# Altium footprint library EIGHT_29.PcbLib: 57 footprints (part 1 of 4)
Each footprint in its own frame and in the unit in brackets; x right, y up, seen from the top. Pads: shape width x height; smd on the part's side, far side on the other; paste and mask are expansions set on the pad; w line width, h text height; cw(c..) or ccw(c..) is an arc to the next point about the centre after c.
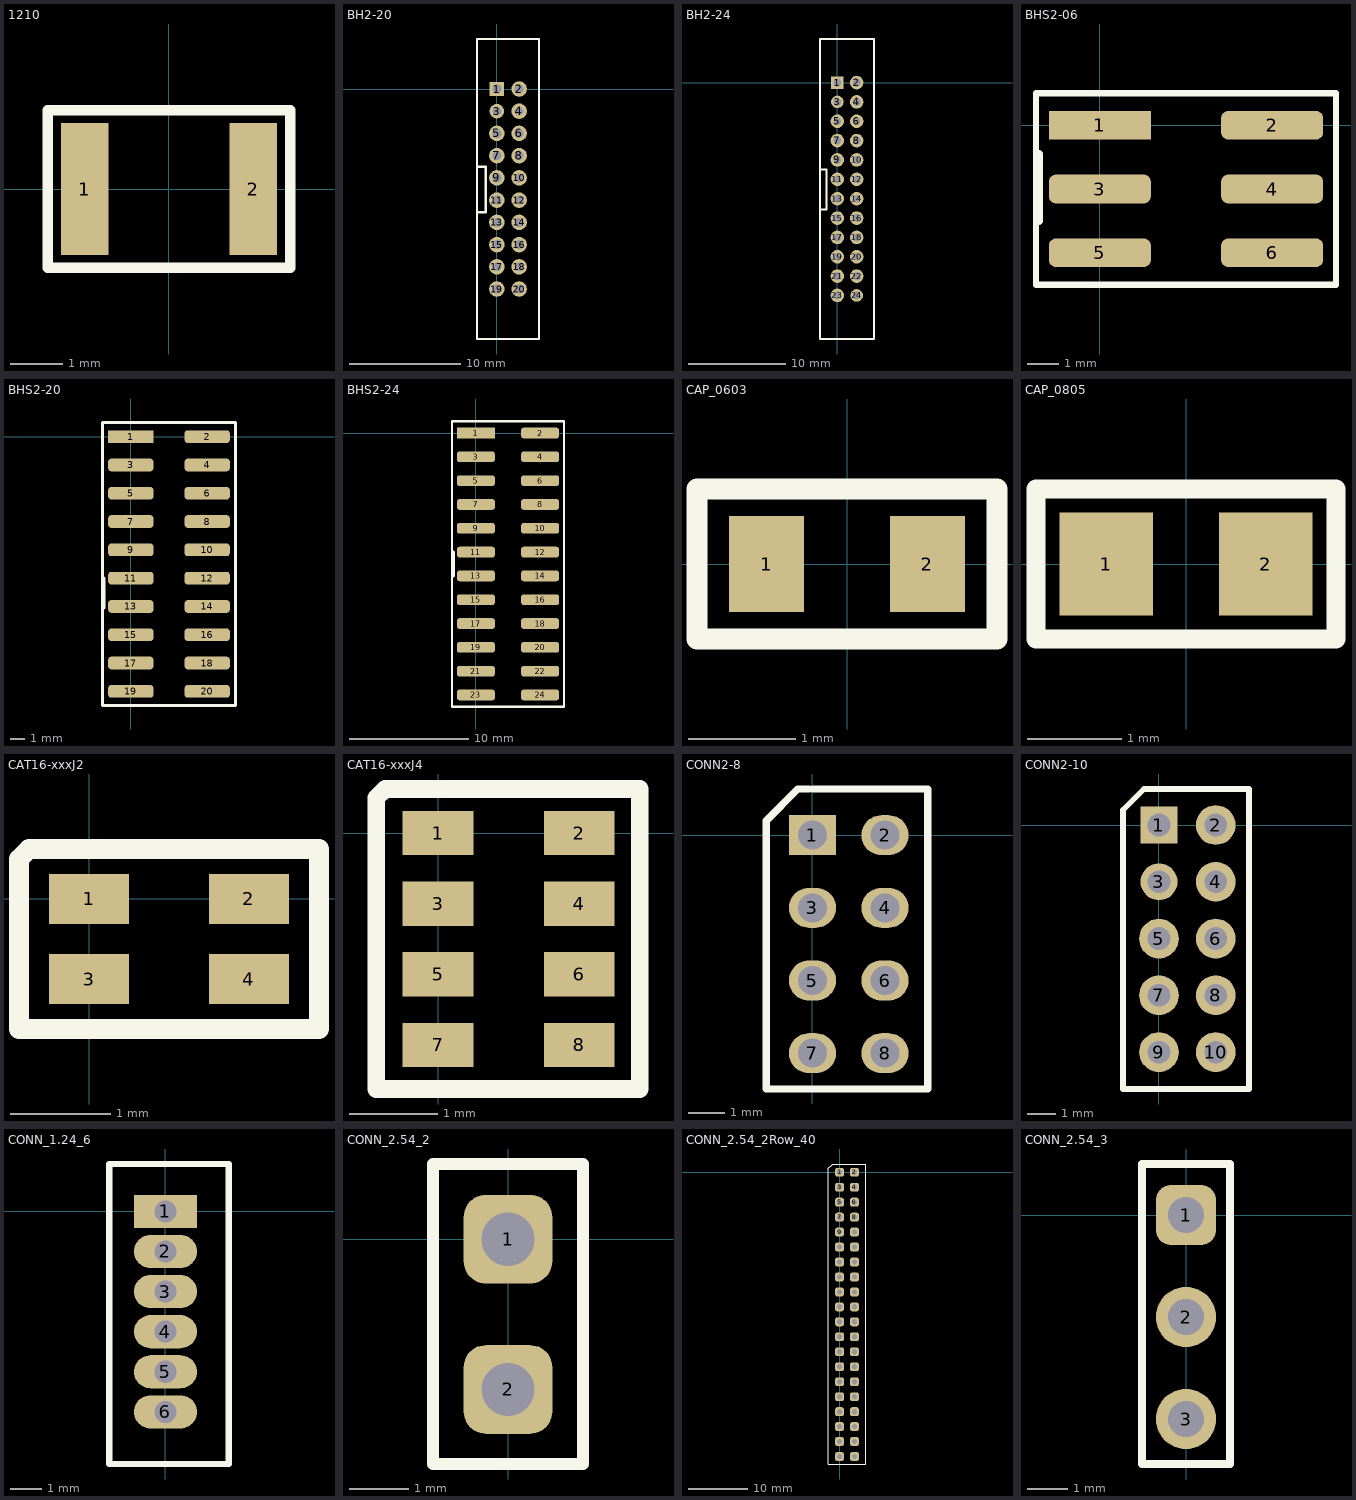
[diagram p0: the footprints below, top view; thin cyan lines are the x and y axes]

## 1210 [mm]
pads (2):
  rect 0.9x2.5 smd: 1(-1.6,0) 2(1.6,0)
Top Overlay:
  lines w0.2: -2.3,-1.5 -2.3,1.5 0.2,1.5 2.3,1.5 2.3,-1.5 -2.3,-1.5

## BH2-20 [mm] "BH2-20"
height 10
pads (20):
  rect 1.3x1.3 hole 0.8: 1(0,0)
  round 1.4 hole 0.8: 2(2,0) 4(2,-2) 5(0,-4) 6(2,-4) 7(0,-6) 8(2,-6) 9(0,-8) 10(2,-8) 11(0,-10) 12(2,-10) 13(0,-12) 14(2,-12) 15(0,-14) 16(2,-14) 17(0,-16) 18(2,-16) 19(0,-18) 20(2,-18)
  round 1.3 hole 0.8: 3(0,-2)
Top Overlay:
  lines w0.2: -1.75,-11.1 -1,-11.1 -1,-7 -1.75,-7 ; 0.5,4.5 3.8,4.5 3.8,-22.5 2.205,-22.5 -1.8,-22.5 -1.8,4.5 -0.077,4.5 0.307,4.5 1.5,4.5

## BH2-24 [mm]
pads (24):
  rect 1.3x1.3 hole 0.8: 1(0,0)
  round 1.4 hole 0.8: 2(2,0) 4(2,-2) 5(0,-4) 6(2,-4) 7(0,-6) 8(2,-6) 9(0,-8) 10(2,-8) 11(0,-10) 12(2,-10) 13(0,-12) 14(2,-12) 15(0,-14) 16(2,-14) 17(0,-16) 18(2,-16) 19(0,-18) 20(2,-18) 21(0,-20) 22(2,-20) 23(0,-22)
  round 1.3 hole 0.8: 3(0,-2) 24(2,-22)
Top Overlay:
  lines w0.2: -1.8,-13.1 -1.1,-13.1 -1.1,-9 -1.8,-9 ; 0.5,4.5 3.8,4.5 3.8,-26.5 0.205,-26.5 -1.8,-26.5 -1.8,4.5 -0.077,4.5 0.307,4.5 1.5,4.5

## BHS2-06 [mm]
pads (6):
  rect 3.2x0.9 smd: 1(0,0)
  rrect50% 3.2x0.9 smd: 2(5.4,0) 3(0,-2) 4(5.4,-2) 5(0,-4) 6(5.4,-4)
Top Overlay:
  lines w0.2: 3.2,1 7.4,1 7.4,-5 -2,-5 -2,1 3.3,1
  lines w0.254: -1.9,-3 -1.9,-0.9 -1.9,-2.6

## BHS2-20 [mm]
pads (20):
  rect 3.2x0.9 smd: 1(0,0)
  rrect50% 3.2x0.9 smd: 2(5.4,0) 3(0,-2) 4(5.4,-2) 5(0,-4) 6(5.4,-4) 7(0,-6) 8(5.4,-6) 9(0,-8) 10(5.4,-8) 11(0,-10) 12(5.4,-10) 13(0,-12) 14(5.4,-12) 15(0,-14) 16(5.4,-14) 17(0,-16) 18(5.4,-16) 19(0,-18) 20(5.4,-18)
Top Overlay:
  lines w0.2: 3.2,1 7.4,1 7.4,-19 1.225,-19 -1.125,-19 -2,-19 -2,1 3.3,1
  lines w0.254: -1.9,-12.1 -1.9,-10 -1.9,-10.4

## BHS2-24 [mm]
pads (24):
  rect 3.2x0.9 smd: 1(0,0)
  rrect50% 3.2x0.9 smd: 2(5.4,0) 3(0,-2) 4(5.4,-2) 5(0,-4) 6(5.4,-4) 7(0,-6) 8(5.4,-6) 9(0,-8) 10(5.4,-8) 11(0,-10) 12(5.4,-10) 13(0,-12) 14(5.4,-12) 15(0,-14) 16(5.4,-14) 17(0,-16) 18(5.4,-16) 19(0,-18) 20(5.4,-18) 21(0,-20) 22(5.4,-20) 23(0,-22) 24(5.4,-22)
Top Overlay:
  lines w0.2: 3.2,1 7.4,1 7.4,-23 -2,-23 -2,1 3.3,1
  lines w0.254: -1.9,-12 -1.9,-10.5 ; -1.9,-10.4 -1.9,-10

## CAP_0603 [mm]
pads (2):
  rect 0.7x0.9 smd: 1(-0.75,0) 2(0.75,0)
Top Overlay:
  lines w0.2: -1.4,-0.7 -1.4,-0.15 -1.4,0.7 1.4,0.7 1.4,-0.7 0.65,-0.7 -0.65,-0.7 -1.4,-0.7

## CAP_0805 [mm]
pads (2):
  rect 1x1.1 smd: 1(-0.85,0) 2(0.85,0)
Top Overlay:
  lines w0.2: -1.6,-0.8 1.6,-0.8 1.6,0.8 -1.6,0.8 -1.6,-0.117 -1.6,-0.8

## CAT16-xxxJ2 [mm]
pads (4):
  rect 0.8x0.5 smd: 1(0,0) 2(1.6,0) 3(0,-0.8) 4(1.6,-0.8)
Top Overlay:
  lines w0.2: 0.6,0.5 2.3,0.5 2.3,-1.3 -0.7,-1.3 -0.7,0.4 -0.6,0.5 1,0.5

## CAT16-xxxJ4 [mm]
pads (8):
  rect 0.8x0.5 smd: 1(0,0) 2(1.6,0) 3(0,-0.8) 4(1.6,-0.8) 5(0,-1.6) 6(1.6,-1.6) 7(0,-2.4) 8(1.6,-2.4)
Top Overlay:
  lines w0.2: 0.6,0.5 2.286,0.5 2.286,-2.9 -0.7,-2.9 -0.7,0.4 -0.6,0.5 1,0.5

## CONN2-8 [mm] "BH2-8"
height 10
pads (8):
  rect 1.3x1.1 hole 0.8: 1(0,0)
  oval 1.3x1.1 hole 0.8: 2(2,0) 3(0,-2) 4(2,-2) 5(0,-4) 6(2,-4) 7(0,-6) 8(2,-6)
Top Overlay:
  lines w0.2: -0.077,1.27 -0.4,1.27 -1.27,0.4 -1.27,-6.985 3.175,-6.985 3.175,1.27 0,1.27

## CONN2-10 [mm]
height 8
pads (10):
  rect 1.3x1.3 hole 0.8: 1(0,0)
  round 1.4 hole 0.8: 2(2,0) 4(2,-2) 5(0,-4) 6(2,-4) 7(0,-6) 8(2,-6) 9(0,-8) 10(2,-8)
  round 1.3 hole 0.8: 3(0,-2)
Top Overlay:
  lines w0.2: -0.077,1.27 -0.53,1.27 -1.27,0.53 -1.27,-9.3 3.175,-9.3 3.175,1.27 0,1.27

## CONN_1.24_6 [mm]
height 8
pads (6):
  rect 2x1.05 hole 0.7: 1(0,0)
  oval 2x1.05 hole 0.7: 2(0,-1.27) 3(0,-2.54) 4(0,-3.81) 5(0,-5.08) 6(0,-6.35)
Top Overlay:
  lines w0.2: -1.778,-8 -1.778,1.5 2,1.5 2,-8 -1.778,-8

## CONN_2.54_2 [mm]
pads (2):
  rrect50% 1.5x1.5 hole 0.9: 1(0,0) 2(0,-2.54)
Top Overlay:
  lines w0.2: -1.27,-3.8 -1.27,1.27 1.27,1.27 1.27,-3.8 -1.27,-3.8

## CONN_2.54_2Row_40 [mm]
pads (40):
  rrect50% 1.5x1.5 hole 0.9: 1(0,0) 2(2.54,0) 3(0,-2.54) 4(2.54,-2.54) 5(0,-5.08) 6(2.54,-5.08) 7(0,-7.62) 8(2.54,-7.62) 9(0,-10.16) 10(2.54,-10.16) 11(0,-12.7) 12(2.54,-12.7) 13(0,-15.24) 14(2.54,-15.24) 15(0,-17.78) 16(2.54,-17.78) 17(0,-20.32) 18(2.54,-20.32) 19(0,-22.86) 20(2.54,-22.86) 21(0,-25.4) 22(2.54,-25.4) 23(0,-27.94) 24(2.54,-27.94) 25(0,-30.48) 26(2.54,-30.48) 27(0,-33.02) 28(2.54,-33.02) 29(0,-35.56) 30(2.54,-35.56) 31(0,-38.1) 32(2.54,-38.1) 33(0,-40.64) 34(2.54,-40.64) 35(0,-43.18) 36(2.54,-43.18) 37(0,-45.72) 38(2.54,-45.72) 39(0,-48.26) 40(2.54,-48.26)
Top Overlay:
  lines w0.2: -1.905,-49.53 1.27,-49.53 4.445,-49.53 4.445,-8.89 4.445,1.397 -1.143,1.397 -1.905,0.635 -1.905,-49.53

## CONN_2.54_3 [mm]
pads (3):
  rrect50% 1.5x1.5 hole 0.9: 1(0,0)
  round 1.5 hole 0.9: 2(0,-2.54) 3(0,-5.08)
Top Overlay:
  lines w0.2: -1.1,-6.2 1.1,-6.2 1.1,1.27 -1.1,1.27 -1.1,-6.2